# EAGLE library part 734-504 (library con-wago_3.81mm)
Serie 734, Federleiste mit geraden Einlötstiften / Series 734, Female connector with straight solder pins Polzahl / Pole No.: 4 Bemessungsspannung / Rated Voltage: 160 V Nennstrom / Nominal Current: 10 A Lötstiftlänge: / Solder Pin Length: 3.8 mm Farbe / Color: orange / orange Stand: 01.01.2012. Die jeweils aktuellen Daten zu diesem Artikel finden Sie in unserem Produktkatalog, den Sie unter www.wago.com einsehen können. As of: 01/01/2012. Please find the newest data for this article in our product catalogue, which can be viewed under www.wago.com.
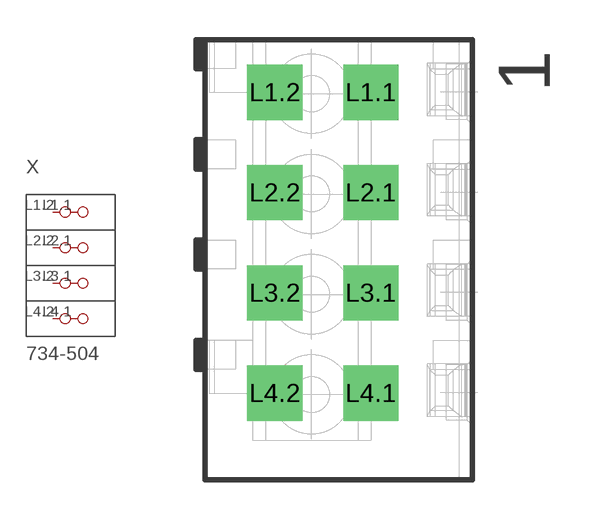
[diagram p38: symbol with the pads of P-734-504; footprint P-734-504]

Designator prefix X

## 734-504  [P-734-504]
L1.1  P1.1
L1.2  P1.2
L2.1  P2.1
L2.2  P2.2
L3.1  P3.1
L3.2  P3.2
L4.1  P4.1
L4.2  P4.2

## Footprint P-734-504 (pad centres in mm)
drill 1.4 square: L1.1 1.294,6.36; L1.2 -2.356,6.36; L2.1 1.294,2.55; L2.2 -2.356,2.55; L3.1 1.294,-1.26; L3.2 -2.356,-1.26; L4.1 1.294,-5.07; L4.2 -2.356,-5.07